# Altium footprint library SchottkyDiode_SS2P2-M384A_2-PIN.PcbLib: 1 footprints
Each footprint in its own frame and in the unit in brackets; x right, y up, seen from the top. Pads: shape width x height; smd on the part's side, far side on the other; paste and mask are expansions set on the pad; w line width, h text height; cw(c..) or ccw(c..) is an arc to the next point about the centre after c.
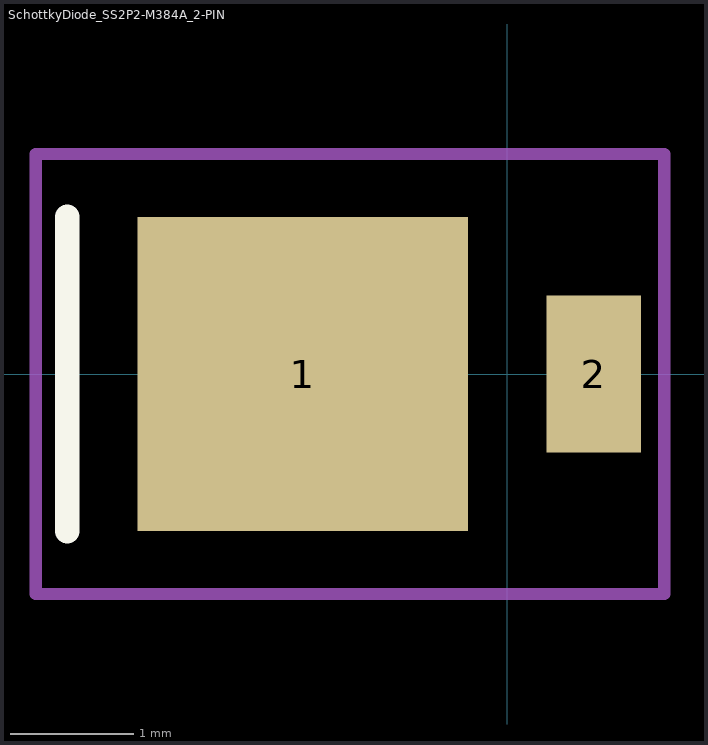
[diagram p0: the footprint, top view; thin cyan lines are the x and y axes]

## SchottkyDiode_SS2P2-M384A_2-PIN [mil]
height 45.28
pads (2):
  rect 105.12x100 smd: 1(-65.06,0)
  rect 30x50 smd: 2(27.5,0)
Top Overlay:
  lines w7.87: -140,-50 -140,50
Mechanical 15:
  lines w3.94: -150,-70 50,-70 50,70 -150,70 -150,-70
3D body: height 27.56, standoff 0, extent -100,-50 25.59,50